# Altium schematic symbol library RASPBERRYPI_4B.Schlib: 1 symbol
Pins are listed as number, name and electrical type; pins without a type are passive.

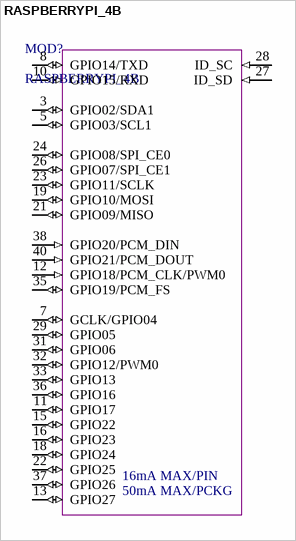
[diagram p0: symbol RASPBERRYPI_4B]

## RASPBERRYPI_4B
designator MOD?
pins: 3 GPIO02/SDA1 (io), 5 GPIO03/SCL1 (io), 7 GCLK/GPIO04 (io), 8 GPIO14/TXD (io), 10 GPIO15/RXD (io), 11 GPIO17 (io), 12 GPIO18/PCM_CLK/PWM0 (in), 13 GPIO27 (io), 15 GPIO22 (io), 16 GPIO23 (io), 18 GPIO24 (io), 19 GPIO10/MOSI (io), 21 GPIO09/MISO (io), 22 GPIO25 (io), 23 GPIO11/SCLK (io), 24 GPIO08/SPI_CE0 (io), 26 GPIO07/SPI_CE1 (io), 27 ID_SD (in) "DONT USE THIS PIN", 28 ID_SC (in) "DONT USE THIS PIN", 29 GPIO05 (io), 31 GPIO06 (io), 32 GPIO12/PWM0 (io), 33 GPIO13 (io), 35 GPIO19/PCM_FS (io), 36 GPIO16 (io), 37 GPIO26 (io), 38 GPIO20/PCM_DIN (in), 40 GPIO21/PCM_DOUT (in)
1 alternate drawing of the same symbol
text: 16mA MAX/PIN; 50mA MAX/PCKG